# Altium footprint library HGH.PcbLib: 336 footprints (part 19 of 21)
Each footprint in its own frame and in the unit in brackets; x right, y up, seen from the top. Pads: shape width x height; smd on the part's side, far side on the other; paste and mask are expansions set on the pad; w line width, h text height; cw(c..) or ccw(c..) is an arc to the next point about the centre after c.
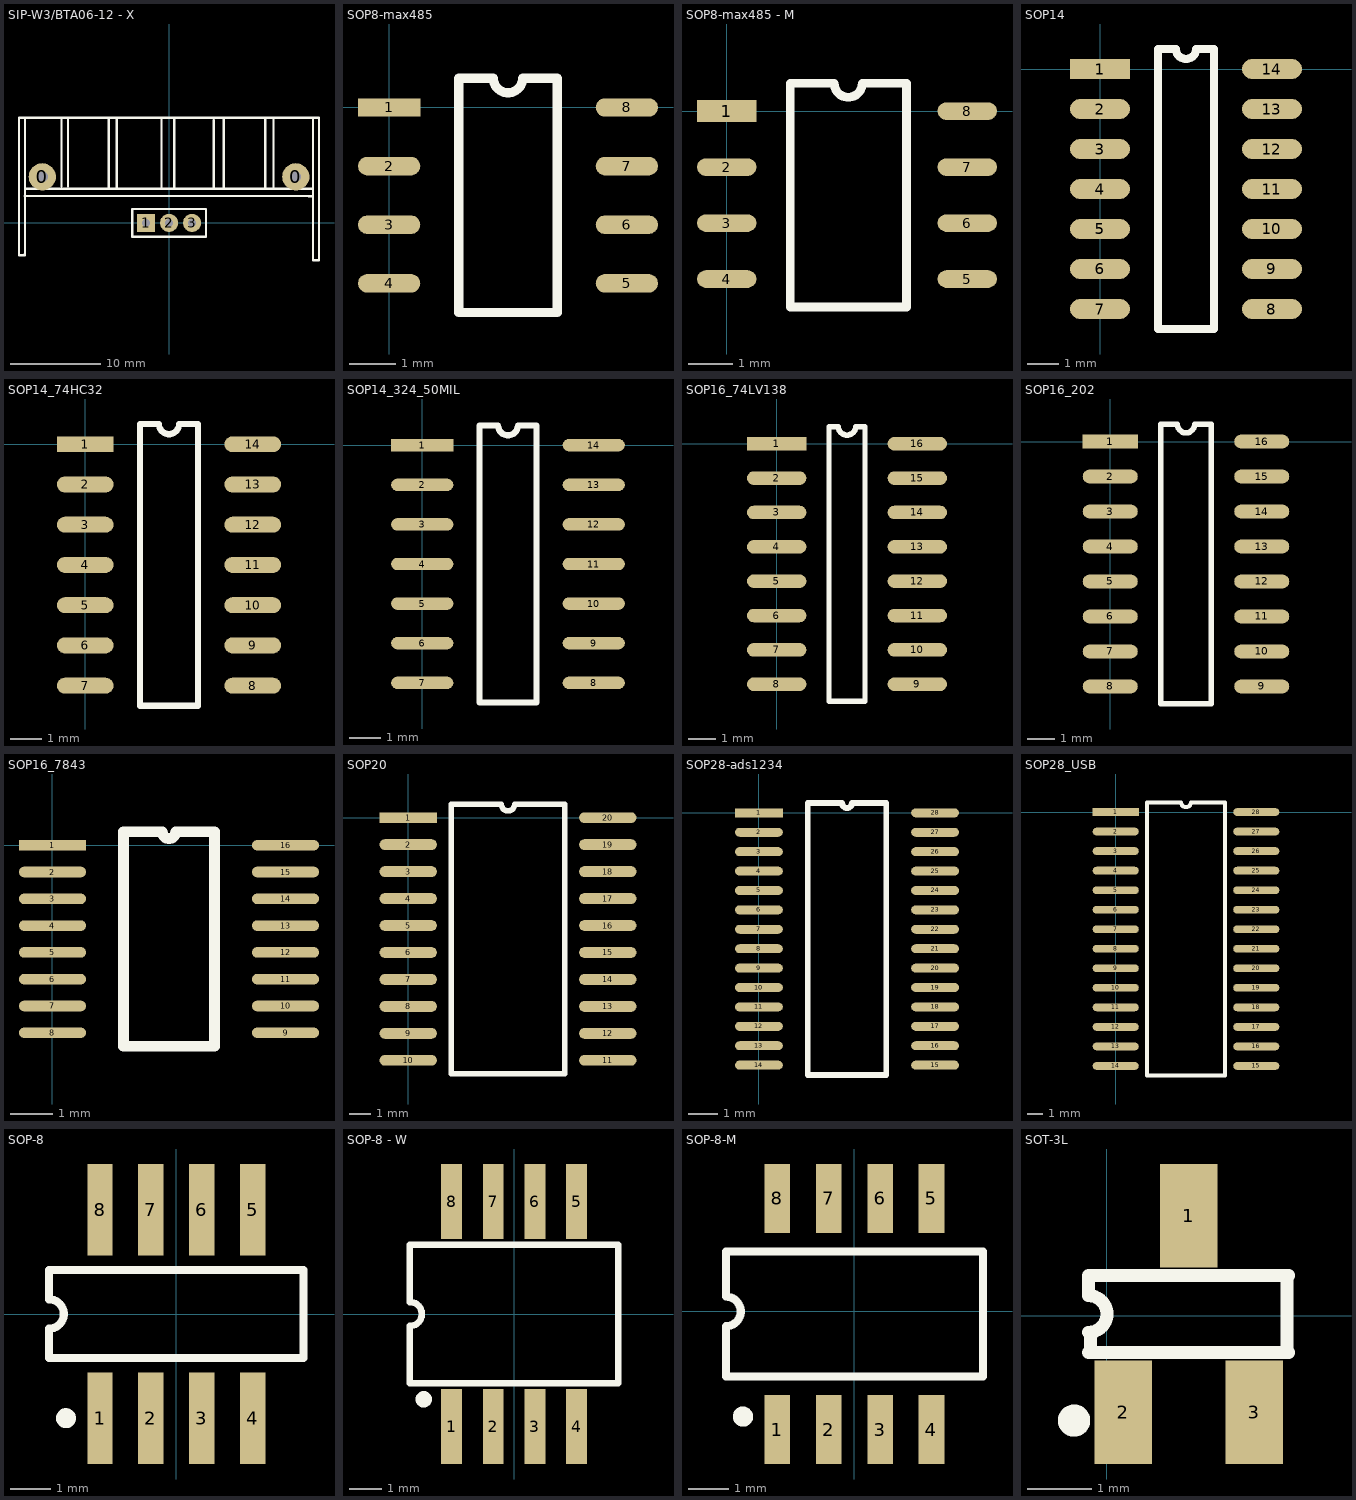
[diagram p18: the footprints below, top view; thin cyan lines are the x and y axes]

## SIP-W3/BTA06-12 - X [mm]
pads (5):
  round 3 hole 1.2: 0(-13.97,5.08) 0(13.97,5.08)
  rect 2x2 hole 0.9: 1(-2.54,0)
  round 2 hole 0.9: 2(0,0) 3(2.54,0)
Top Overlay:
  lines w0.254: -15.95,-3.51 -15.88,-3.58 ; -15.89,2.96 15.4,2.95 15.73,2.95 ; -15.88,3.75 15.81,3.75 ; -15.88,11.58 -15.88,-3.58 ; -11.85,4.01 -11.85,11.58 ; -11.13,4.02 -11.13,11.58 ; -6.64,3.94 -6.64,11.34 -6.64,11.58 ; -5.78,3.88 -5.78,11.58 ; -0.83,3.75 -0.83,11.58 ; 0.56,3.75 0.56,11.52 ; 4.92,3.75 4.92,11.31 ; 6.04,3.75 6.04,11.38 ; 10.59,3.75 10.59,11.45 ; 11.52,3.75 11.52,11.51 ; 15.87,11.52 15.87,-4.11 16.53,-4.11 16.53,5.5 16.53,11.58 -16.54,11.58 -16.54,5.5 -16.54,-3.58 -15.88,-3.58 ; -4.064,-1.524 4.064,-1.524 4.064,1.524 -4.064,1.524 -4.064,-1.524

## SOP8-max485 [mm]
pads (8):
  rect 1.35x0.4 smd: 1(0,0)
  oval 1.35x0.4 smd: 2(0,-1.27) 3(0,-2.54) 4(0,-3.81) 5(5.15,-3.81) 6(5.15,-2.54) 7(5.15,-1.27) 8(5.15,0)
Top Overlay:
  lines w0.2: 1.51,-4.445 3.64,-4.445 3.64,0.635 2.892,0.635 cw(c2.575,0.635) 2.257,0.635 1.51,0.635 1.51,-4.445

## SOP8-max485 - M [mm]
pads (8):
  rect 1.35x0.5 smd: 1(0,0)
  oval 1.35x0.4 smd: 2(0,-1.27) 3(0,-2.54) 4(0,-3.81) 5(5.461,-3.81) 6(5.461,-2.54) 7(5.461,-1.27) 8(5.461,0)
Top Overlay:
  lines w0.2: 1.44,-4.445 1.44,0.635 2.441,0.635 ccw(c2.759,0.635) 3.076,0.635 4.078,0.635 4.078,-4.445 1.44,-4.445

## SOP14 [mil]
pads (14):
  rect 75x25 smd: 1(0,0)
  oval 75x25 smd: 2(0,-50) 3(0,-100) 4(0,-150) 5(0,-200) 6(0,-250) 7(0,-300) 8(215,-300) 9(215,-250) 10(215,-200) 11(215,-150) 12(215,-100) 13(215,-50) 14(215,0)
Top Overlay:
  lines w10: 72.5,-325 72.5,25 95,25 ccw(c107.5,25) 120,25 142.5,25 142.5,-325 72.5,-325

## SOP14_74HC32 [mm]
pads (14):
  rect 1.79x0.5 smd: 1(0,0)
  oval 1.79x0.5 smd: 2(0,-1.27) 3(0,-2.54) 4(0,-3.81) 5(0,-5.08) 6(0,-6.35) 7(0,-7.62) 8(5.29,-7.62) 9(5.29,-6.35) 10(5.29,-5.08) 11(5.29,-3.81) 12(5.29,-2.54) 13(5.29,-1.27) 14(5.29,0)
Top Overlay:
  lines w0.2: 1.73,-8.255 3.56,-8.255 3.56,0.635 2.962,0.635 cw(c2.645,0.635) 2.327,0.635 1.73,0.635 1.73,-8.255

## SOP14_324_50MIL [mm]
pads (14):
  rect 2x0.4 smd: 1(0,0)
  oval 2x0.4 smd: 2(0,-1.27) 3(0,-2.54) 4(0,-3.81) 5(0,-5.08) 6(0,-6.35) 7(0,-7.62) 8(5.5,-7.62) 9(5.5,-6.35) 10(5.5,-5.08) 11(5.5,-3.81) 12(5.5,-2.54) 13(5.5,-1.27) 14(5.5,0)
Top Overlay:
  lines w0.2: 1.835,-8.255 3.665,-8.255 3.665,0.635 3.067,0.635 cw(c2.75,0.635) 2.432,0.635 1.835,0.635 1.835,-8.255

## SOP16_74LV138 [mm]
pads (16):
  rect 2.2x0.5 smd: 1(0,0)
  oval 2.2x0.5 smd: 2(0,-1.27) 3(0,-2.54) 4(0,-3.81) 5(0,-5.08) 6(0,-6.35) 7(0,-7.62) 8(0,-8.89) 9(5.2,-8.89) 10(5.2,-7.62) 11(5.2,-6.35) 12(5.2,-5.08) 13(5.2,-3.81) 14(5.2,-2.54) 15(5.2,-1.27) 16(5.2,0)
Top Overlay:
  lines w0.2: 1.935,-9.525 1.935,0.635 2.282,0.635 ccw(c2.6,0.635) 2.917,0.635 3.265,0.635 3.265,-9.525 1.935,-9.525

## SOP16_202 [mm]
pads (16):
  rect 2x0.5 smd: 1(0,0)
  oval 2x0.5 smd: 2(0,-1.27) 3(0,-2.54) 4(0,-3.81) 5(0,-5.08) 6(0,-6.35) 7(0,-7.62) 8(0,-8.89) 9(5.5,-8.89) 10(5.5,-7.62) 11(5.5,-6.35) 12(5.5,-5.08) 13(5.5,-3.81) 14(5.5,-2.54) 15(5.5,-1.27) 16(5.5,0)
Top Overlay:
  lines w0.2: 1.835,-9.525 3.665,-9.525 3.665,0.635 3.067,0.635 cw(c2.75,0.635) 2.432,0.635 1.835,0.635 1.835,-9.525

## SOP16_7843 [mil]
pads (16):
  rect 62.5x10 smd: 1(0,0)
  oval 62.5x10 smd: 2(0,-25) 3(0,-50) 4(0,-75) 5(0,-100) 6(0,-125) 7(0,-150) 8(0,-175) 9(217.5,-175) 10(217.5,-150) 11(217.5,-125) 12(217.5,-100) 13(217.5,-75) 14(217.5,-50) 15(217.5,-25) 16(217.5,0)
Top Overlay:
  lines w10: 66.25,-187.5 66.25,12.5 102.5,12.5 ccw(c108.75,12.5) 115,12.5 151.25,12.5 151.25,-187.5 66.25,-187.5

## SOP20 [mil]
pads (20):
  rect 106.3x20 smd: 1(0,0)
  oval 106.3x20 smd: 2(0,-50) 3(0,-100) 4(0,-150) 5(0,-200) 6(0,-250) 7(0,-300) 8(0,-350) 9(0,-400) 10(0,-450) 11(370,-450) 12(370,-400) 13(370,-350) 14(370,-300) 15(370,-250) 16(370,-200) 17(370,-150) 18(370,-100) 19(370,-50) 20(370,0)
Top Overlay:
  lines w10: 80,-475 80,25 172.5,25 ccw(c185,25) 197.5,25 290,25 290,-475 80,-475

## SOP28-ads1234 [mm]
pads (28):
  rect 1.6x0.3 smd: 1(0,0)
  oval 1.6x0.3 smd: 2(0,-0.65) 3(0,-1.3) 4(0,-1.95) 5(0,-2.6) 6(0,-3.25) 7(0,-3.9) 8(0,-4.55) 9(0,-5.2) 10(0,-5.85) 11(0,-6.5) 12(0,-7.15) 13(0,-7.8) 14(0,-8.45) 15(5.9,-8.45) 16(5.9,-7.8) 17(5.9,-7.15) 18(5.9,-6.5) 19(5.9,-5.85) 20(5.9,-5.2) 21(5.9,-4.55) 22(5.9,-3.9) 23(5.9,-3.25) 24(5.9,-2.6) 25(5.9,-1.95) 26(5.9,-1.3) 27(5.9,-0.65) 28(5.9,0)
Top Overlay:
  lines w0.2: 1.635,-8.775 4.265,-8.775 4.265,0.325 3.112,0.325 cw(c2.95,0.325) 2.788,0.325 1.635,0.325 1.635,-8.775

## SOP28_USB [mil]
pads (28):
  rect 118.11x20 smd: 1(0,0)
  oval 118.11x20 smd: 2(0,-50) 3(0,-100) 4(0,-150) 5(0,-200) 6(0,-250) 7(0,-300) 8(0,-350) 9(0,-400) 10(0,-450) 11(0,-500) 12(0,-550) 13(0,-600) 14(0,-650) 15(360,-650) 16(360,-600) 17(360,-550) 18(360,-500) 19(360,-450) 20(360,-400) 21(360,-350) 22(360,-300) 23(360,-250) 24(360,-200) 25(360,-150) 26(360,-100) 27(360,-50) 28(360,0)
Top Overlay:
  lines w10: 80,-675 80,25 167.5,25 ccw(c180,25) 192.5,25 280,25 280,-675 80,-675

## SOP-8 [mm]
pads (8):
  rect 0.635x2.286 smd: 1(-1.905,-2.6) 2(-0.635,-2.6) 3(0.635,-2.6) 4(1.905,-2.6) 5(1.905,2.6) 6(0.635,2.6) 7(-0.635,2.6) 8(-1.905,2.6)
Top Overlay:
  circle w0.25: c-2.755,-2.6 r0.125
  lines w0.2: -3.175,-1.1 3.175,-1.1 3.175,1.1 -3.175,1.1 -3.175,0.367 cw(c-3.175,0) -3.175,-0.367 -3.175,-1.1

## SOP-8 - W [mil]
pads (8):
  rect 25x90 smd: 1(-75,-135) 2(-25,-135) 3(25,-135) 4(75,-135) 5(75,135) 6(25,135) 7(-25,135) 8(-75,135)
Top Overlay:
  circle w9.84: c-108.46,-102.36 r4.92
  lines w7.87: -125,-83.31 125,-83.31 125,83.31 -125,83.31 -125,14.44 cw(c-125,0) -125,-14.44 -125,-83.31

## SOP-8-M [mm]
pads (8):
  rect 0.635x1.7 smd: 1(-1.905,-2.921) 2(-0.635,-2.921) 3(0.635,-2.921) 4(1.905,-2.921) 5(1.905,2.794) 6(0.635,2.794) 7(-0.635,2.794) 8(-1.905,2.794)
Top Overlay:
  circle w0.25: c-2.755,-2.6 r0.125
  lines w0.2: -3.175,-1.608 -3.175,-0.367 ccw(c-3.175,0) -3.175,0.367 -3.175,1.481 3.175,1.481 3.175,-1.608 -3.175,-1.608

## SOT-3L [mil] "2N3906/2A/PNP"
pads (3):
  rect 35x62.99 smd: 1(50,61.08) 2(10,-58.92) 3(90,-58.92)
Top Overlay:
  circle w9.84: c-19.92,-63.92 r4.92
  lines w7.87: -11.02,-22.38 111.02,-22.38 ; -11.02,-10.07 ccw(c-11.02,1.09) -11.02,12.24 -11.02,24.55 111.02,24.55 ; -10,-18.92 -10,-11.61 ; 110,-18.92 110,23.01